# EAGLE library part 6180XX29221_61803729221 (library WR-DSUB)
WR-DSUB Male PCB Connector with Hex Screw General Information Operating Temperature -55 °C up to +105 °C Gender Male Type Straight Insulator Material PBT Insulator Flammability Rating UL94 V-0 Insulator Color White Contact Material Copper Alloy Contact Plating Gold Contact Type Stamped Shielding Material Steel Shielding Plating Tin Electrical Properties Working Voltage 250 V (AC) Withstanding Voltage 1000 V (AC) Contact Resistance 30 mΩ <https://www.we-online.com/components/media/o33089v209%20Family_WR-DSUB_6180xx29221.jpg> Details see: www.we-online.com/components/products/DSUB_MALE_PCB_CONNECTOR_W_HEX_SCREW_6180XX29221 <www.we-online.com/catalog/DSUB_MALE_PCB_CONNECTOR_W_HEX_SCREW_6180XX29221/?utm_source=eagle_model&utm_medium=description_link&utm_campaign=eisos_eagle> Updated by Ella Wu 2025-07-25 2025 (C) Würth Elektronik
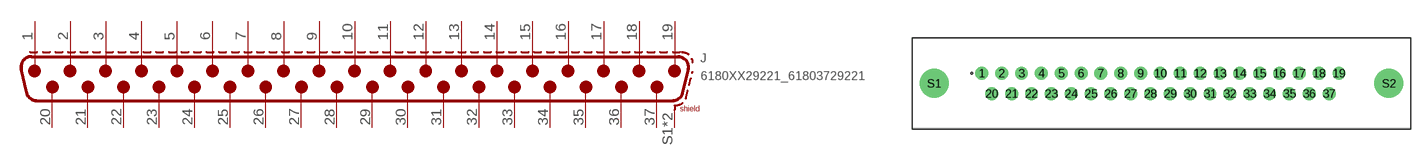
[diagram p48: symbol with the pads of 61803729221; footprint 61803729221]

Designator prefix J

## 6180XX29221_61803729221 (DATASHEET-URL: https://www.we-online.com/redexpert/spec/61803729221?ae; GENDER: Male; OPERATING-TEMPERATURE: -55 °C up to +105 °C; PART-NUMBER: 61803729221; PINS: 37; TYPE: Straight; VALUE: 61803729221; WORKING-VOLTAGE: 250VAC)  [61803729221]
1  1
2  2
3  3
4  4
5  5
6  6
7  7
8  8
9  9
10  10
11  11
12  12
13  13
14  14
15  15
16  16
17  17
18  18
19  19
20  20
21  21
22  22
23  23
24  24
25  25
26  26
27  27
28  28
29  29
30  30
31  31
32  32
33  33
34  34
35  35
36  36
37  37
S1  SHIELD
S2  SHIELD

## Footprint 61803729221 (pad centres in mm)
WR-DSUB Male PCB Connector with Hex Screw, 37 Pins
drill 1.2: 1 -25.08,1.42; 2 -22.31,1.42; 3 -19.54,1.42; 4 -16.77,1.42; 5 -14,1.42; 6 -11.23,1.42; 7 -8.46,1.42; 8 -5.69,1.42; 9 -2.92,1.42; 10 -0.15,1.42; 11 2.62,1.42; 12 5.39,1.42; 13 8.16,1.42; 14 10.93,1.42; 15 13.7,1.42; 16 16.47,1.42; 17 19.24,1.42; 18 22.01,1.42; 19 24.78,1.42; 20 -23.695,-1.42; 21 -20.925,-1.42; 22 -18.155,-1.42; 23 -15.385,-1.42; 24 -12.615,-1.42; 25 -9.845,-1.42; 26 -7.075,-1.42; 27 -4.305,-1.42; 28 -1.535,-1.42; 29 1.235,-1.42; 30 4.005,-1.42; 31 6.775,-1.42; 32 9.545,-1.42; 33 12.315,-1.42; 34 15.085,-1.42; 35 17.855,-1.42; 36 20.625,-1.42; 37 23.395,-1.42
drill 3.05: S1 -31.75,0; S2 31.75,0